# Altium footprint library InverterPCBLib.PcbLib: 3 footprints
Each footprint in its own frame and in the unit in brackets; x right, y up, seen from the top. Pads: shape width x height; smd on the part's side, far side on the other; paste and mask are expansions set on the pad; w line width, h text height; cw(c..) or ccw(c..) is an arc to the next point about the centre after c.
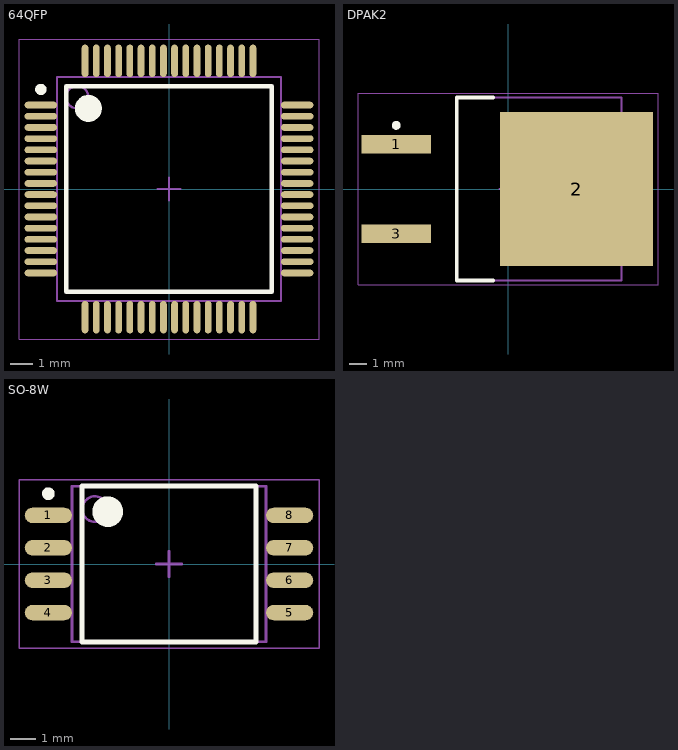
[diagram p0: the footprints below, top view; thin cyan lines are the x and y axes]

## 64QFP [mm] "TSQFP, 64-Leads, Body 10.00x10.00mm, Pitch 0.50mm, IPC Medium Density"
height 1.6
pads (64):
  oval 1.45x0.3 smd: 1(-5.725,3.75) 2(-5.725,3.25) 3(-5.725,2.75) 4(-5.725,2.25) 5(-5.725,1.75) 6(-5.725,1.25) 7(-5.725,0.75) 8(-5.725,0.25) 9(-5.725,-0.25) 10(-5.725,-0.75) 11(-5.725,-1.25) 12(-5.725,-1.75) 13(-5.725,-2.25) 14(-5.725,-2.75) 15(-5.725,-3.25) 16(-5.725,-3.75) 33(5.725,-3.75) 34(5.725,-3.25) 35(5.725,-2.75) 36(5.725,-2.25) 37(5.725,-1.75) 38(5.725,-1.25) 39(5.725,-0.75) 40(5.725,-0.25) 41(5.725,0.25) 42(5.725,0.75) 43(5.725,1.25) 44(5.725,1.75) 45(5.725,2.25) 46(5.725,2.75) 47(5.725,3.25) 48(5.725,3.75)
  oval 0.3x1.45 smd: 17(-3.75,-5.725) 18(-3.25,-5.725) 19(-2.75,-5.725) 20(-2.25,-5.725) 21(-1.75,-5.725) 22(-1.25,-5.725) 23(-0.75,-5.725) 24(-0.25,-5.725) 25(0.25,-5.725) 26(0.75,-5.725) 27(1.25,-5.725) 28(1.75,-5.725) 29(2.25,-5.725) 30(2.75,-5.725) 31(3.25,-5.725) 32(3.75,-5.725) 49(3.75,5.725) 50(3.25,5.725) 51(2.75,5.725) 52(2.25,5.725) 53(1.75,5.725) 54(1.25,5.725) 55(0.75,5.725) 56(0.25,5.725) 57(-0.25,5.725) 58(-0.75,5.725) 59(-1.25,5.725) 60(-1.75,5.725) 61(-2.25,5.725) 62(-2.75,5.725) 63(-3.25,5.725) 64(-3.75,5.725)
Top Overlay:
  circle w0.6: c-3.6,3.6 r0.3
  circle w0.25: c-5.725,4.45 r0.125
  lines w0.2: -4.6,-4.6 4.6,-4.6 4.6,4.6 -4.6,4.6 -4.6,-4.6
Mechanical 13:
  circle w0.1: c-4.1,4.1 r0.5
  lines w0.1: -5,-5 5,-5 5,5 -5,5 -5,-5
Mechanical 15:
  lines w0.05: -6.7,-6.7 6.7,-6.7 6.7,6.7 -6.7,6.7 -6.7,-6.7
  lines w0.1: -0.5,0 0.5,0 ; 0,-0.5 0,0.5
3D body "TSQFP50P1200X1200X160-64N.step": height 1.6, standoff 0, extent -6,-6 6,6

## DPAK2 [mm] "D2-PAK, 3-Pads, Body 7.78x8.56mm (max), IPC Medium Density"
height 4.6
pads (3):
  rect 3.95x1.05 smd: 1(-6.35,2.54) 3(-6.35,-2.54)
  rect 8.7x8.75 smd: 2(3.9,0)
Top Overlay:
  circle w0.25: c-6.35,3.615 r0.125
  lines w0.2: -0.85,-5.2 -2.9,-5.2 -2.9,5.2 -0.85,5.2
Mechanical 13:
  lines w0.1: -2.9,-5.2 6.45,-5.2 6.45,5.2 -2.9,5.2 -2.9,-5.2
Mechanical 15:
  lines w0.05: -8.525,-5.45 8.525,-5.45 8.525,5.45 -8.525,5.45 -8.525,-5.45
  lines w0.1: -0.5,0 0.5,0 ; 0,-0.5 0,0.5
3D body "DPAK254P1542X460-3N.step": height 4.6, standoff 0, extent -7.29,-5.2 8.135,5.2

## SO-8W [mm] "SOP, 8-Leads, Body 5.85x7.49mm, Pitch 1.27mm, IPC Medium Density"
height 2.64
pads (8):
  oval 1.85x0.6 smd: 1(-4.725,1.905) 2(-4.725,0.635) 3(-4.725,-0.635) 4(-4.725,-1.905) 5(4.725,-1.905) 6(4.725,-0.635) 7(4.725,0.635) 8(4.725,1.905)
Top Overlay:
  circle w0.25: c-4.725,2.755 r0.125
  circle w0.6: c-2.4,2.05 r0.3
  lines w0.2: -3.4,-3.05 -3.4,3.05 3.4,3.05 3.4,-3.05 -3.4,-3.05
Mechanical 13:
  circle w0.1: c-2.9,2.15 r0.5
  lines w0.1: -3.8,-3.05 -3.8,3.05 3.8,3.05 3.8,-3.05 -3.8,-3.05
Mechanical 15:
  lines w0.05: -5.875,-3.3 -5.875,3.3 5.875,3.3 5.875,-3.3 -5.875,-3.3
  lines w0.1: -0.5,0 0.5,0 ; 0,-0.5 0,0.5
3D body "SOP127P1030X264-8N.step": height 2.64, standoff 0, extent -5.158,-3.05 5.158,3.05